# EAGLE library part TDA8586Q (library Audio-Power-amplifier)
Power amplifier with load detection and auto BTL/SE selection
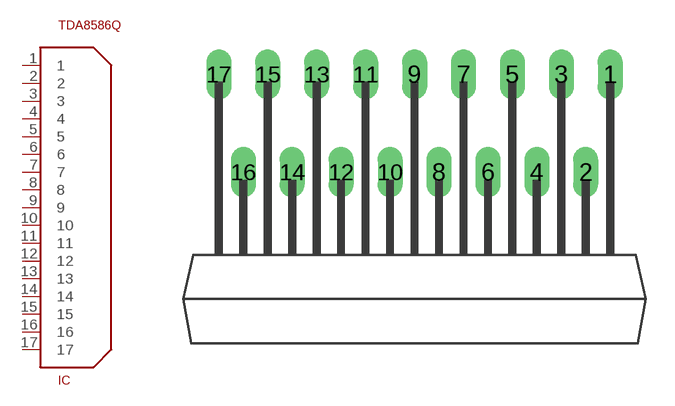
[diagram p58: symbol with the pads of SOT243-1; footprint SOT243-1]

Designator prefix IC

## TDA8586Q  [SOT243-1]
1  1  out
2  2  pwr
3  3
4  4  out
5  5  in
6  6  in
7  7  in
8  8  in
9  9  pwr
10  10  pwr
11  11
12  12
13  13
14  14  out
15  15
16  16  pwr
17  17  out

## Footprint SOT243-1 (pad centres in mm)
drill 0.8 long: 1 10.16,13.97; 2 8.89,8.89; 3 7.62,13.97; 4 6.35,8.89; 5 5.08,13.97; 6 3.81,8.89; 7 2.54,13.97; 8 1.27,8.89; 9 0,13.97; 10 -1.27,8.89; 11 -2.54,13.97; 12 -3.81,8.89; 13 -5.08,13.97; 14 -6.35,8.89; 15 -7.62,13.97; 16 -8.89,8.89; 17 -10.16,13.97